# Altium schematic symbol library SCH - OPAMP - PGA281.SCHLIB: 1 symbol
Pins are listed as number, name and electrical type; pins without a type are passive.

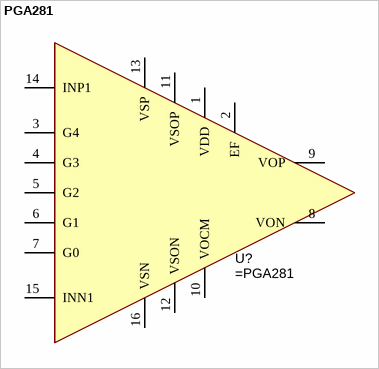
[diagram p0: symbol PGA281]

## PGA281
designator U?
Zero-Dirft, High Voltage Programmable Gain Amplifier; Manufacturer: Used in BOM report; SymbolVersion: use current date i.e. 2008-05-20; SymbolCreator: Use a-id; CompType: Used in some BOM reports.  Useful for finding later.; U/M: EA, IN, or GM; MountType: SMT, TH, or N/A; RoHS: Used in BOM report.  Use Y or N.; PartNumber: Used in BOM report; PackageReference: eg:  0603, used in PnP report; ComponentLink1Description: Datasheet Link; Alternate PartNumber: -; Alternate Manufacturer: -
pins: 1 VDD, 2 EF, 3 G4, 4 G3, 5 G2, 6 G1, 7 G0, 8 VON, 9 VOP, 10 VOCM, 11 VSOP, 12 VSON, 13 VSP, 14 INP1, 15 INN1, 16 VSN